# Altium schematic symbol library SMAJ26CA.Schlib: 1 symbol
Pins are listed as number, name and electrical type; pins without a type are passive.

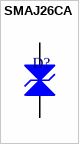
[diagram p0: symbol SMAJ26CA]

## SMAJ26CA
designator D?
400 W  Bi-Directional SMT Transient Voltage Suppressor Diode
pins: 1 A, 2 K
1 alternate drawing of the same symbol